# Altium schematic symbol library Resistors.SCHLIB: 99 symbols (part 2 of 2)
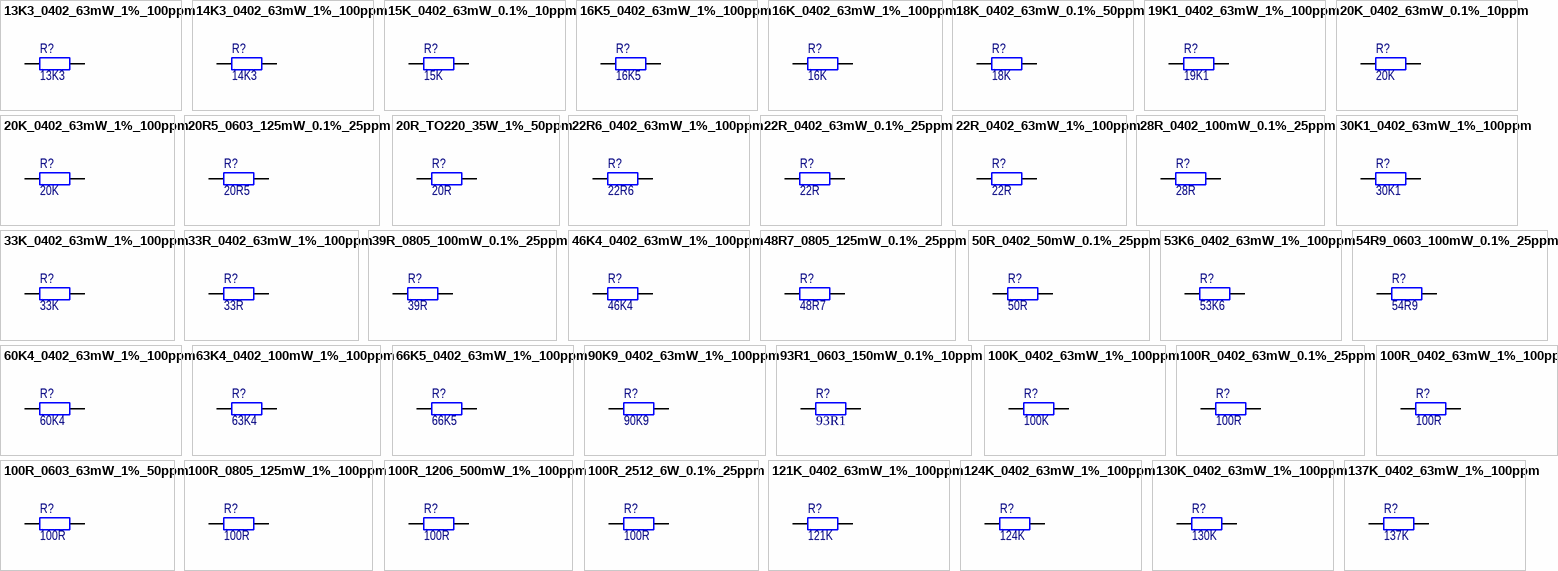
[diagram p3: symbols 13K3_0402_63mW_1%_100ppm to 137K_0402_63mW_1%_100ppm]

## 53K6_0402_63mW_1%_100ppm
designator R?, comment value 53K6  (hidden comment: RC0402FR-0753K6L)
Resistor; Chip; 53.6k; 0402; 50V; 1%; 100ppm; 63mW; -55°C ~ 155°C; Manufacturer: Yageo; Manufacturer Part Number: RC0402FR-0753K6L; Supplier 1: DigiKey; Supplier Part Number 1: 311-53.6KLRDKR-ND; ComponentLink1Description: Datasheet; ComponentLink1URL: https://www.yageo.com/upload/media/product/productsearch/datasheet/rchip/PYu-RC_Group_51_RoHS_L_11.pdf; ComponentLink2Description: Supplier Info; ComponentLink2URL: https://www.digikey.com/en/products/detail/yageo/RC0402FR-0753K6L/726634?s=N4IgTCBcDaIMwEYEFoCscB0A2A0gGQCUARHA5AOSJAF0BfIA
simulation model RESISTOR (Resistor)
signal-integrity model Res
footprint RESC0402 (Chip Resistor, Body 1.1x0.5mm (LxW typ) [0402], IPC High Density)
pins: 1, 2

## 54R9_0603_100mW_0.1%_25ppm
designator R?, comment value 54R9  (hidden comment: ERA-3AEB54R9V)
Resistor; Chip; 54.9R; 0603; 75V; 0.1%; 25ppm; 100mW; -55°C ~ 155°C; Manufacturer: Panasonic Electronic Components; Manufacturer Part Number: ERA-3AEB54R9V; Supplier 1: DigiKey; Supplier Part Number 1: P54.9DBDKR-ND; ComponentLink1Description: Datasheet; ComponentLink1URL: https://industrial.panasonic.com/cdbs/www-data/pdf/RDM0000/AOA0000C307.pdf; ComponentLink2Description: Supplier Info; ComponentLink2URL: https://www.digikey.com/en/products/detail/panasonic-electronic-components/ERA-3AEB54R9V/2026635?s=N4IgTCBcDaIAoFYAsA6AnAEQEIYNICUBaAOQxAF0BfIA
simulation model RESISTOR (Resistor)
signal-integrity model Res
footprint RESC0603 (Chip Resistor, Body 1.6x0.8mm (LxW typ) [0603], IPC High Density)
pins: 1, 2

## 60K4_0402_63mW_1%_100ppm
designator R?, comment value 60K4  (hidden comment: RC0402FR-0760K4L)
Resistor; Chip; 60.4k; 0402; 50V; 1%; 100ppm; 63mW; -55°C ~ 155°C; Manufacturer: Yageo; Manufacturer Part Number: RC0402FR-0760K4L; Supplier 1: DigiKey; Supplier Part Number 1: 311-60.4KLRDKR-ND; ComponentLink1Description: Datasheet; ComponentLink1URL: https://www.yageo.com/upload/media/product/productsearch/datasheet/rchip/PYu-RC_Group_51_RoHS_L_11.pdf; ComponentLink2Description: Supplier Info; ComponentLink2URL: https://www.digikey.com/en/products/detail/yageo/RC0402FR-0760K4L/726643?s=N4IgTCBcDaIMwEYEFoBsAGAdAFgNIBkAlAEV0OQDliQBdAXyA
simulation model RESISTOR (Resistor)
signal-integrity model Res
footprint RESC0402 (Chip Resistor, Body 1.1x0.5mm (LxW typ) [0402], IPC High Density)
pins: 1, 2

## 63K4_0402_100mW_1%_100ppm
designator R?, comment value 63K4  (hidden comment: ERJ-2RKF63R4X)
Resistor; Chip; 63.4k; 0402; 50V; 1%; 100ppm; 100mW; -55°C ~ 155°C; Manufacturer: Panasonic Electronic Components; Manufacturer Part Number: ERJ-2RKF63R4X; Supplier 1: DigiKey; Supplier Part Number 1: P63.4LDKR-ND; ComponentLink1Description: Datasheet; ComponentLink1URL: https://industrial.panasonic.com/cdbs/www-data/pdf/RDA0000/AOA0000C304.pdf; ComponentLink2Description: Supplier Info; ComponentLink2URL: https://www.digikey.com/en/products/detail/panasonic-electronic-components/ERJ-2RKF63R4X/192435?s=N4IgTCBcDaIAoDYDMA6ALAGQCIGkBKAtAHJYgC6AvkA
simulation model RESISTOR (Resistor)
signal-integrity model Res
footprint RESC0402 (Chip Resistor, Body 1.1x0.5mm (LxW typ) [0402], IPC High Density)
pins: 1, 2

## 66K5_0402_63mW_1%_100ppm
designator R?, comment value 66K5  (hidden comment: RC0402FR-0766K5L)
Resistor; Chip; 66.5k; 0402; 50V; 1%; 100ppm; 63mW; -55°C ~ 155°C; Manufacturer: Yageo; Manufacturer Part Number: RC0402FR-0766K5L; Supplier 1: DigiKey; Supplier Part Number 1: YAG3209DKR-ND; ComponentLink1Description: Datasheet; ComponentLink1URL: https://www.yageo.com/upload/media/product/productsearch/datasheet/rchip/PYu-RC_Group_51_RoHS_L_11.pdf; ComponentLink2Description: Supplier Info; ComponentLink2URL: https://www.digikey.com/en/products/detail/yageo/RC0402FR-0766K5L/5281069?s=N4IgTCBcDaIJoEEDiBmMAGAnAEQNICUBaAOWxAF0BfIA
simulation model RESISTOR (Resistor)
signal-integrity model Res
footprint RESC0402 (Chip Resistor, Body 1.1x0.5mm (LxW typ) [0402], IPC High Density)
pins: 1, 2

## 90K9_0402_63mW_1%_100ppm
designator R?, comment value 90K9  (hidden comment: RC0402FR-0790K9L)
Resistor; Chip; 90.9k; 0402; 50V; 1%; 100ppm; 63mW; -55°C ~ 155°C; Manufacturer: Yageo; Manufacturer Part Number: RC0402FR-0790K9L; Supplier 1: DigiKey; Supplier Part Number 1: 311-90.9KLRDKR-ND; ComponentLink1Description: Datasheet; ComponentLink1URL: https://www.yageo.com/upload/media/product/productsearch/datasheet/rchip/PYu-RC_Group_51_RoHS_L_11.pdf; ComponentLink2Description: Supplier Info; ComponentLink2URL: https://www.digikey.com/en/products/detail/yageo/RC0402FR-0790K9L/726670?s=N4IgTCBcDaIMwEYEFoCcAGAdKg0gGQCUARHA5AOSJAF0BfIA
simulation model RESISTOR (Resistor)
signal-integrity model Res
footprint RESC0402 (Chip Resistor, Body 1.1x0.5mm (LxW typ) [0402], IPC High Density)
pins: 1, 2

## 93R1_0603_150mW_0.1%_10ppm
designator R?, comment value 93R1  (hidden comment: RQ73C1J93R1BTD)
Resistor; Chip; 93.1R; 0603; 75V; 0.1%; 10ppm; 150mW; -55°C ~ 155°C; Manufacturer: TE Connectivity; Manufacturer Part Number: RQ73C1J93R1BTD; Supplier 1: DigiKey; Supplier Part Number 1: A139961DKR-ND; ComponentLink1Description: Datasheet; ComponentLink1URL: https://media.digikey.com/pdf/Data%20Sheets/Tyco%20Electronics%20P%20B%20PDFs/RQ73-0618%20v2.pdf; ComponentLink2Description: Supplier Info; ComponentLink2URL: https://www.digikey.com/en/products/detail/te-connectivity-passive-product/RQ73C1J93R1BTD/9479909?s=N4IgTCBcDaIIIEYDMBOFA2BARA0gJQFoA5LEAXQF8g
simulation model RESISTOR (Resistor)
signal-integrity model Res
footprint RESC0603 (Chip Resistor, Body 1.6x0.8mm (LxW typ) [0603], IPC High Density)
pins: 1, 2

## 100K_0402_63mW_1%_100ppm
designator R?, comment value 100K  (hidden comment: RC0402FR-07100KL)
Resistor; Chip; 100k; 0402; 50V; 1%; 100ppm; 63mW; -55°C ~ 155°C; Manufacturer: Yageo; Manufacturer Part Number: RC0402FR-07100KL; Supplier 1: DigiKey; Supplier Part Number 1: 311-100KLRDKR-ND; ComponentLink1Description: Datasheet; ComponentLink1URL: https://www.yageo.com/upload/media/product/productsearch/datasheet/rchip/PYu-RC_Group_51_RoHS_L_11.pdf; ComponentLink2Description: Supplier Info; ComponentLink2URL: https://www.digikey.com/en/products/detail/yageo/RC0402FR-07100KL/726526?s=N4IgTCBcDaIMwEYEFoEAY0GkAyAlAIprsgHL4gC6AvkA
simulation model RESISTOR (Resistor)
signal-integrity model Res
footprint RESC0402 (Chip Resistor, Body 1.1x0.5mm (LxW typ) [0402], IPC High Density)
pins: 1, 2

## 100R_0402_63mW_0.1%_25ppm
designator R?, comment value 100R  (hidden comment: CRT0402-BY-1000GST)
Resistor; Chip; 100R; 0402; 50V; 0.1%; 25ppm; 63mW; -55°C ~ 155°C; Manufacturer: Bourns Inc.; Manufacturer Part Number: CRT0402-BY-1000GST; Supplier 1: DigiKey; Supplier Part Number 1: CRT0402-BY-1000GSTDKR-ND; ComponentLink1Description: Datasheet; ComponentLink1URL: https://www.bourns.com/docs/product-datasheets/crt-st.pdf; ComponentLink2Description: Supplier Info; ComponentLink2URL: https://www.digikey.com/en/products/detail/bourns-inc/CRT0402-BY-1000GST/7928082?s=N4IgTCBcDaIMICUAqAGALCsBaAQgTSwEYUSBxAZSQBEBpBLAOSpAF0BfIA
simulation model RESISTOR (Resistor)
signal-integrity model Res
footprint RESC0402 (Chip Resistor, Body 1.1x0.5mm (LxW typ) [0402], IPC High Density)
pins: 1, 2

## 100R_0402_63mW_1%_100ppm
designator R?, comment value 100R  (hidden comment: RC0402FR-07100RL)
Resistor; Chip; 100R; 0402; 50V; 1%; 100ppm; 63mW; -55°C ~ 155°C; Manufacturer: Yageo; Manufacturer Part Number: RC0402FR-07100RL; Supplier 1: DigiKey; Supplier Part Number 1: 311-100LRDKR-ND; ComponentLink1Description: Datasheet; ComponentLink1URL: https://www.yageo.com/upload/media/product/productsearch/datasheet/rchip/PYu-RC_Group_51_RoHS_L_11.pdf; ComponentLink2Description: Supplier Info; ComponentLink2URL: https://www.digikey.com/en/products/detail/yageo/RC0402FR-07100RL/726527?s=N4IgTCBcDaIMwEYEFoEAY0BkBKARA0tsgHK4gC6AvkA
simulation model RESISTOR (Resistor)
signal-integrity model Res
footprint RESC0402 (Chip Resistor, Body 1.1x0.5mm (LxW typ) [0402], IPC High Density)
pins: 1, 2

## 100R_0603_63mW_1%_50ppm
designator R?, comment value 100R  (hidden comment: CPF0603F100RC1)
Resistor; Chip; 100R; 0603; 50V; 1%; 50ppm; 63mW; -55°C ~ 155°C; Manufacturer: TE Connectivity; Manufacturer Part Number: CPF0603F100RC1; Supplier 1: DigiKey; Supplier Part Number 1: A102200DKR-ND; ComponentLink1Description: Datasheet; ComponentLink1URL: https://www.te.com/commerce/DocumentDelivery/DDEController?Action=srchrtrv&DocNm=1773200&DocType=DS&DocLang=English; ComponentLink2Description: Supplier Info; ComponentLink2URL: https://www.digikey.com/en/products/detail/te-connectivity-passive-product/CPF0603F100RC1/2384293?s=N4IgTCBcDaIIIEYAMYxKQEQNICUC0AchiALoC%2BQA
simulation model RESISTOR (Resistor)
signal-integrity model Res
footprint RESC0603 (Chip Resistor, Body 1.6x0.8mm (LxW typ) [0603], IPC High Density)
pins: 1, 2

## 100R_0805_125mW_1%_100ppm
designator R?, comment value 100R  (hidden comment: RC0805FR-07100RL)
Resistor; Chip; 100R; 0805; 150V; 1%; 100ppm; 125mW; -55°C ~ 155°C; Manufacturer: Yageo; Manufacturer Part Number: RC0805FR-07100RL; Supplier 1: DigiKey; Supplier Part Number 1: 311-100CRCT-ND; ComponentLink1Description: Datasheet; ComponentLink1URL: https://www.yageo.com/upload/media/product/productsearch/datasheet/rchip/PYu-RC_Group_51_RoHS_L_11.pdf; ComponentLink2Description: Supplier Info; ComponentLink2URL: https://www.digikey.com/en/products/detail/yageo/RC0805FR-07100RL/727543?s=N4IgTCBcDaIMwEYEFoEAY0GEBKmAqyAcgCIgC6AvkA
simulation model RESISTOR (Resistor)
signal-integrity model Res
footprint RESC0805 (Chip Resistor, Body 2.0x1.3mm (LxW typ) [0805], IPC High Density)
pins: 1, 2

## 100R_1206_500mW_1%_100ppm
designator R?, comment value 100R  (hidden comment: RNCP1206FTD100R)
Resistor; Chip; 100R; 1206; 200V; 1%; 100ppm; 500mW; -55°C ~ 155°C; Manufacturer: Stackpole Electronics Inc; Manufacturer Part Number: RNCP1206FTD100R; Supplier 1: DigiKey; Supplier Part Number 1: RNCP1206FTD100RDKR-ND; ComponentLink1Description: Datasheet; ComponentLink1URL: https://www.seielect.com/catalog/sei-rncp.pdf; ComponentLink2Description: Supplier Info; ComponentLink2URL: https://www.digikey.com/en/products/detail/stackpole-electronics-inc/RNCP1206FTD100R/2240316?s=N4IgTCBcDaIEoDkDCAFAjGADANgGIBUARNTTOQgaTgFoFCQBdAXyA
simulation model RESISTOR (Resistor)
signal-integrity model Res
footprint RESC1206 (Chip Resistor, Body 3.2x1.6mm (LxW typ) [1206], IPC High Density)
pins: 1, 2

## 100R_2512_6W_0.1%_25ppm
designator R?, comment value 100R  (hidden comment: PCAN2512E1000BST5)
Resistor; Chip; 100R; 2512; 100V; 0.1%; 25ppm; 6W; -55°C ~ 155°C; Manufacturer: Vishay; Manufacturer Part Number: PCAN2512E1000BST5; Supplier 1: DigiKey; Supplier Part Number 1: 764-1143-1-ND; ComponentLink1Description: Datasheet; ComponentLink1URL: https://www.vishay.com/docs/60125/pcan.pdf; ComponentLink2Description: Supplier Info; ComponentLink2URL: https://www.digikey.com/en/products/detail/vishay-dale-thin-film/PCAN2512E1000BST5/4895519?s=N4IgTCBcDaIOwDYAsBaAjGpBmdKByAIiALoC%2BQA
simulation model RESISTOR (Resistor)
signal-integrity model Res
footprint RESC2512 (Chip Resistor, Body 6.3x3.2mm (LxW typ) [2512], IPC High Density)
pins: 1, 2

## 121K_0402_63mW_1%_100ppm
designator R?, comment value 121K  (hidden comment: RC0402FR-07121KL)
Resistor; Chip; 121k; 0402; 50V; 1%; 100ppm; 63mW; -55°C ~ 155°C; Manufacturer: Yageo; Manufacturer Part Number: RC0402FR-07121KL; Supplier 1: DigiKey; Supplier Part Number 1: 311-121KLRCT-ND; ComponentLink1Description: Datasheet; ComponentLink1URL: https://www.yageo.com/upload/media/product/productsearch/datasheet/rchip/PYu-RC_Group_51_RoHS_L_11.pdf; ComponentLink2Description: Supplier Info; ComponentLink2URL: https://www.digikey.com/en/products/detail/yageo/RC0402FR-07121KL/726536?s=N4IgTCBcDaIMwEYEFoFgQaQDICUDCAKsgHIAiIAugL5A
simulation model RESISTOR (Resistor)
signal-integrity model Res
footprint RESC0402 (Chip Resistor, Body 1.1x0.5mm (LxW typ) [0402], IPC High Density)
pins: 1, 2

## 124K_0402_63mW_1%_100ppm
designator R?, comment value 124K  (hidden comment: RC0402FR-07124KL)
Resistor; Chip; 124k; 0402; 50V; 1%; 100ppm; 63mW; -55°C ~ 155°C; Manufacturer: Yageo; Manufacturer Part Number: RC0402FR-07124KL; Supplier 1: DigiKey; Supplier Part Number 1: 311-124KLRDKR-ND; ComponentLink1Description: Datasheet; ComponentLink1URL: https://www.yageo.com/upload/media/product/productsearch/datasheet/rchip/PYu-RC_Group_51_RoHS_L_11.pdf; ComponentLink2Description: Supplier Info; ComponentLink2URL: https://www.digikey.com/en/products/detail/yageo/RC0402FR-07124KL/726537?s=N4IgTCBcDaIMwEYEFoFgCwGkAyAlAIprsgHL4gC6AvkA
simulation model RESISTOR (Resistor)
signal-integrity model Res
footprint RESC0402 (Chip Resistor, Body 1.1x0.5mm (LxW typ) [0402], IPC High Density)
pins: 1, 2

## 130K_0402_63mW_1%_100ppm
designator R?, comment value 130K  (hidden comment: RC0402FR-07130KL)
Resistor; Chip; 130k; 0402; 50V; 1%; 100ppm; 63mW; -55°C ~ 155°C; Manufacturer: Yageo; Manufacturer Part Number: RC0402FR-07130KL; Supplier 1: DigiKey; Supplier Part Number 1: YAG2969DKR-ND; ComponentLink1Description: Datasheet; ComponentLink1URL: https://www.yageo.com/upload/media/product/productsearch/datasheet/rchip/PYu-RC_Group_51_RoHS_L_11.pdf; ComponentLink2Description: Supplier Info; ComponentLink2URL: https://www.digikey.com/en/products/detail/yageo/RC0402FR-07130KL/5280829?s=N4IgTCBcDaIJoEEDiYCcA2VARA0gJQFoA5LEAXQF8g
simulation model RESISTOR (Resistor)
signal-integrity model Res
footprint RESC0402 (Chip Resistor, Body 1.1x0.5mm (LxW typ) [0402], IPC High Density)
pins: 1, 2

## 137K_0402_63mW_1%_100ppm
designator R?, comment value 137K  (hidden comment: RC0402FR-07137KL)
Resistor; Chip; 137k; 0402; 50V; 1%; 100ppm; 63mW; -55°C ~ 155°C; Manufacturer: Yageo; Manufacturer Part Number: RC0402FR-07137KL; Supplier 1: DigiKey; Supplier Part Number 1: YAG2972DKR-ND; ComponentLink1Description: Datasheet; ComponentLink1URL: https://www.yageo.com/upload/media/product/productsearch/datasheet/rchip/PYu-RC_Group_51_RoHS_L_11.pdf; ComponentLink2Description: Supplier Info; ComponentLink2URL: https://www.digikey.com/en/products/detail/yageo/RC0402FR-07137KL/5280832?s=N4IgTCBcDaIJoEEDiYCcB2MARA0gJQFoA5LEAXQF8g
simulation model RESISTOR (Resistor)
signal-integrity model Res
footprint RESC0402 (Chip Resistor, Body 1.1x0.5mm (LxW typ) [0402], IPC High Density)
pins: 1, 2

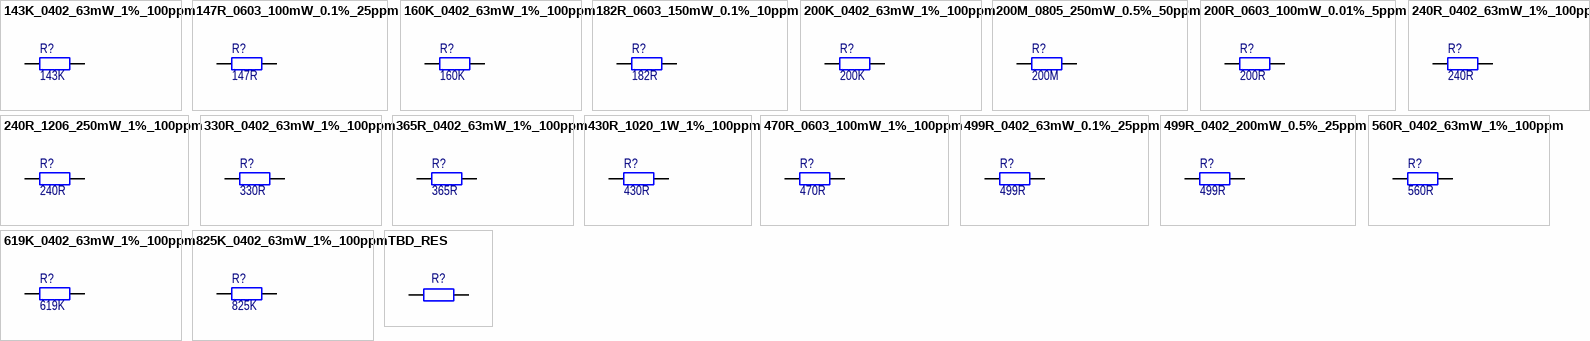
[diagram p2: symbols 143K_0402_63mW_1%_100ppm to TBD_RES]

## 143K_0402_63mW_1%_100ppm
designator R?, comment value 143K  (hidden comment: RC0402FR-07143KL)
Resistor; Chip; 143k; 0402; 50V; 1%; 100ppm; 63mW; -55°C ~ 155°C; Manufacturer: Yageo; Manufacturer Part Number: RC0402FR-07143KL; Supplier 1: DigiKey; Supplier Part Number 1: YAG2979CT-ND; ComponentLink1Description: Datasheet; ComponentLink1URL: https://www.yageo.com/upload/media/product/productsearch/datasheet/rchip/PYu-RC_Group_51_RoHS_L_11.pdf; ComponentLink2Description: Supplier Info; ComponentLink2URL: https://www.digikey.com/en/products/detail/yageo/RC0402FR-07143KL/5280839?s=N4IgTCBcDaIJoEEDiYCcB2VBhAKgWgDkAREAXQF8g
simulation model RESISTOR (Resistor)
signal-integrity model Res
footprint RESC0402 (Chip Resistor, Body 1.1x0.5mm (LxW typ) [0402], IPC High Density)
pins: 1, 2

## 147R_0603_100mW_0.1%_25ppm
designator R?, comment value 147R  (hidden comment: ERA-3AEB1470V)
Resistor; Chip; 147R; 0603; 75V; 0.1%; 25ppm; 100mW; -55°C ~ 155°C; Manufacturer: Panasonic Electronic Components; Manufacturer Part Number: ERA-3AEB1470V; Supplier 1: DigiKey; Supplier Part Number 1: P147DBDKR-ND; ComponentLink1Description: Datasheet; ComponentLink1URL: https://industrial.panasonic.com/cdbs/www-data/pdf/RDM0000/AOA0000C307.pdf; ComponentLink2Description: Supplier Info; ComponentLink2URL: https://www.digikey.com/en/products/detail/panasonic-electronic-components/ERA-3AEB1470V/2026672?s=N4IgTCBcDaIAoEYAsB2AIgITQaQEoFoA5NEAXQF8g
simulation model RESISTOR (Resistor)
signal-integrity model Res
footprint RESC0603 (Chip Resistor, Body 1.6x0.8mm (LxW typ) [0603], IPC High Density)
pins: 1, 2

## 160K_0402_63mW_1%_100ppm
designator R?, comment value 160K  (hidden comment: RC0402FR-07160KL)
Resistor; Chip; 160k; 0402; 50V; 1%; 100ppm; 63mW; -55°C ~ 155°C; Manufacturer: Yageo; Manufacturer Part Number: RC0402FR-07160KL; Supplier 1: DigiKey; Supplier Part Number 1: YAG2996DKR-ND; ComponentLink1Description: Datasheet; ComponentLink1URL: https://www.yageo.com/upload/media/product/productsearch/datasheet/rchip/PYu-RC_Group_51_RoHS_L_11.pdf; ComponentLink2Description: Supplier Info; ComponentLink2URL: https://www.digikey.com/en/products/detail/yageo/RC0402FR-07160KL/5280856?s=N4IgTCBcDaIJoEEDiYCcqBsARA0gJQFoA5LEAXQF8g
simulation model RESISTOR (Resistor)
signal-integrity model Res
footprint RESC0402 (Chip Resistor, Body 1.1x0.5mm (LxW typ) [0402], IPC High Density)
pins: 1, 2

## 182R_0603_150mW_0.1%_10ppm
designator R?, comment value 182R  (hidden comment: RQ73C1J182RBTD)
Resistor; Chip; 182R; 0603; 75V; 0.1%; 10ppm; 150mW; -55°C ~ 155°C; Manufacturer: TE Connectivity; Manufacturer Part Number: RQ73C1J182RBTD; Supplier 1: DigiKey; Supplier Part Number 1: A140433DKR-ND; ComponentLink1Description: Datasheet; ComponentLink1URL: https://media.digikey.com/pdf/Data%20Sheets/Tyco%20Electronics%20P%20B%20PDFs/RQ73-0618%20v2.pdf; ComponentLink2Description: Supplier Info; ComponentLink2URL: https://www.digikey.com/en/products/detail/te-connectivity-passive-product/RQ73C1J182RBTD/9480381?s=N4IgTCBcDaIIIEYAsAGJBmdARA0gJQFoA5LEAXQF8g
simulation model RESISTOR (Resistor)
signal-integrity model Res
footprint RESC0603 (Chip Resistor, Body 1.6x0.8mm (LxW typ) [0603], IPC High Density)
pins: 1, 2

## 200K_0402_63mW_1%_100ppm
designator R?, comment value 200K  (hidden comment: RC0402FR-07200KL)
Resistor; Chip; 200k; 0402; 50V; 1%; 100ppm; 63mW; -55°C ~ 155°C; Manufacturer: Yageo; Manufacturer Part Number: RC0402FR-07200KL; Supplier 1: DigiKey; Supplier Part Number 1: 311-200KLRDKR-ND; ComponentLink1Description: Datasheet; ComponentLink1URL: https://www.yageo.com/upload/media/product/productsearch/datasheet/rchip/PYu-RC_Group_51_RoHS_L_11.pdf; ComponentLink2Description: Supplier Info; ComponentLink2URL: https://www.digikey.com/en/products/detail/yageo/RC0402FR-07200KL/726558?s=N4IgTCBcDaIMwEYEFowAY0GkAyAlAIprsgHL4gC6AvkA
simulation model RESISTOR (Resistor)
signal-integrity model Res
footprint RESC0402 (Chip Resistor, Body 1.1x0.5mm (LxW typ) [0402], IPC High Density)
pins: 1, 2

## 200M_0805_250mW_0.5%_50ppm
designator R?, comment value 200M  (hidden comment: KDV08DR200ET)
Resistor; Chip; 200M; 0805; 150V; 0.5%; 50ppm; 250mW; -55°C ~ 155°C; Manufacturer: Ohmite; Manufacturer Part Number: KDV08DR200ET; Supplier 1: DigiKey; Supplier Part Number 1: 273-KDV08DR200ETDKR-ND; ComponentLink1Description: Datasheet; ComponentLink1URL: https://www.ohmite.com/assets/docs/res_kdv.pdf?r=false; ComponentLink2Description: Supplier Info; ComponentLink2URL: https://www.digikey.com/en/products/detail/ohmite/KDV08DR200ET/10476522?s=N4IgTCBcDa4OwGYC0BpAIgNQAwA40CUwssBRAFTRXyQDk0QBdAXyA
simulation model RESISTOR (Resistor)
signal-integrity model Res
footprint RESC0805 (Chip Resistor, Body 2.0x1.3mm (LxW typ) [0805], IPC High Density)
pins: 1, 2

## 200R_0603_100mW_0.01%_5ppm
designator R?, comment value 200R  (hidden comment: RNCF0603TKY200R)
Resistor; Chip; 200R; 0603; 75V; 0.01%; 5ppm; 100mW; -55°C ~ 155°C; Manufacturer: Stackpole Electronics Inc; Manufacturer Part Number: RNCF0603TKY200R; Supplier 1: DigiKey; Supplier Part Number 1: RNCF0603TKY200RDKR-ND; ComponentLink1Description: Datasheet; ComponentLink1URL: https://www.seielect.com/catalog/sei-rncf.pdf; ComponentLink2Description: Supplier Info; ComponentLink2URL: https://www.digikey.com/en/products/detail/stackpole-electronics-inc/RNCF0603TKY200R/4928380?s=N4IgTCBcDaIEoDkDCAxADANjQZgCoGkBNMNNOAEXzgFoFyQBdAXyA
simulation model RESISTOR (Resistor)
signal-integrity model Res
footprint RESC0603 (Chip Resistor, Body 1.6x0.8mm (LxW typ) [0603], IPC High Density)
pins: 1, 2

## 240R_0402_63mW_1%_100ppm
designator R?, comment value 240R  (hidden comment: RC0402FR-07240RL)
Resistor; Chip; 240R; 0402; 50V; 1%; 100ppm; 63mW; -55°C ~ 155°C; Manufacturer: Yageo; Manufacturer Part Number: RC0402FR-07240RL; Supplier 1: DigiKey; Supplier Part Number 1: 311-240LRDKR-ND; ComponentLink1Description: Datasheet; ComponentLink1URL: https://www.yageo.com/upload/media/product/productsearch/datasheet/rchip/PYu-RC_Group_51_RoHS_L_11.pdf; ComponentLink2Description: Supplier Info; ComponentLink2URL: https://www.digikey.com/en/products/detail/yageo/RC0402FR-07240RL/2827564?s=N4IgTCBcDaIMwEYEFowBYAMAZASgEQGkdkA5PEAXQF8g
simulation model RESISTOR (Resistor)
signal-integrity model Res
footprint RESC0402 (Chip Resistor, Body 1.1x0.5mm (LxW typ) [0402], IPC High Density)
pins: 1, 2

## 240R_1206_250mW_1%_100ppm
designator R?, comment value 240R  (hidden comment: RC1206FR-07240RL)
Resistor; Chip; 240R; 1206; 50V; 1%; 100ppm; 250mW; -55°C ~ 155°C; Manufacturer: Yageo; Manufacturer Part Number: RC1206FR-07240RL; Supplier 1: DigiKey; Supplier Part Number 1: 311-240FRDKR-ND; ComponentLink1Description: Datasheet; ComponentLink1URL: https://www.yageo.com/upload/media/product/productsearch/datasheet/rchip/PYu-RC_Group_51_RoHS_L_11.pdf; ComponentLink2Description: Supplier Info; ComponentLink2URL: https://www.digikey.com/en/products/detail/yageo/RC1206FR-07240RL/728713?s=N4IgTCBcDaIMwEYEFowBYAMAxASgEQGkdkA5PEAXQF8g
simulation model RESISTOR (Resistor)
signal-integrity model Res
footprint RESC1206 (Chip Resistor, Body 3.2x1.6mm (LxW typ) [1206], IPC High Density)
pins: 1, 2

## 330R_0402_63mW_1%_100ppm
designator R?, comment value 330R  (hidden comment: RC0402FR-07330RL)
Resistor; Chip; 330R; 0402; 50V; 1%; 100ppm; 63mW; -55°C ~ 155°C; Manufacturer: Yageo; Manufacturer Part Number: RC0402FR-07330RL; Supplier 1: DigiKey; Supplier Part Number 1: 311-330LRDKR-ND; ComponentLink1Description: Datasheet; ComponentLink1URL: https://www.yageo.com/upload/media/product/productsearch/datasheet/rchip/PYu-RC_Group_51_RoHS_L_11.pdf; ComponentLink2Description: Supplier Info; ComponentLink2URL: https://www.digikey.com/en/products/detail/yageo/RC0402FR-07330RL/726594?s=N4IgTCBcDaIMwEYEFo5wAwBkBKARA0tsgHK4gC6AvkA
simulation model RESISTOR (Resistor)
signal-integrity model Res
footprint RESC0402 (Chip Resistor, Body 1.1x0.5mm (LxW typ) [0402], IPC High Density)
pins: 1, 2

## 365R_0402_63mW_1%_100ppm
designator R?, comment value 365R  (hidden comment: RC0402FR-07365RL)
Resistor; Chip; 365R; 0402; 50V; 1%; 100ppm; 63mW; -55°C ~ 155°C; Manufacturer: Yageo; Manufacturer Part Number: RC0402FR-07365RL; Supplier 1: DigiKey; Supplier Part Number 1: YAG3134DKR-ND; ComponentLink1Description: Datasheet; ComponentLink1URL: https://www.yageo.com/upload/media/product/productsearch/datasheet/rchip/PYu-RC_Group_51_RoHS_L_11.pdf; ComponentLink2Description: Supplier Info; ComponentLink2URL: https://www.digikey.com/en/products/detail/yageo/RC0402FR-07365RL/5280994?s=N4IgTCBcDaIJoEEDiBmAjCgLAEQNICUBaAOWxAF0BfIA
simulation model RESISTOR (Resistor)
signal-integrity model Res
footprint RESC0402 (Chip Resistor, Body 1.1x0.5mm (LxW typ) [0402], IPC High Density)
pins: 1, 2

## 430R_1020_1W_1%_100ppm
designator R?, comment value 430R  (hidden comment: LTR50UZPF4300)
Resistor; Chip; 430R; 1020; 200V; 1%; 100ppm; 1W; -55°C ~ 155°C; Manufacturer: Rohm Semiconductor; Manufacturer Part Number: LTR50UZPF4300; Supplier 1: DigiKey; Supplier Part Number 1: RHM430ACDKR-ND; ComponentLink1Description: Datasheet; ComponentLink1URL: https://d1d2qsbl8m0m72.cloudfront.net/en/products/databook/datasheet/passive/resistor/chip_resistor/ltr-e.pdf; ComponentLink2Description: Supplier Info; ComponentLink2URL: https://www.digikey.com/en/products/detail/rohm-semiconductor/LTR50UZPF4300/4052996?s=N4IgTCBcDaIEoAkCyAWAzABgIIGEAiA0nALQByeIAugL5A
simulation model RESISTOR (Resistor)
signal-integrity model Res
footprint RESC1020 (Chip Resistor, Body 2.5x5.0mm (LxW typ) [1020])
pins: 1, 2

## 470R_0603_100mW_1%_100ppm
designator R?, comment value 470R  (hidden comment: RC0603FR-07470RL)
Resistor; Chip; 470R; 0603; 75V; 1%; 100ppm; 100mW; -55°C ~ 155°C; Manufacturer: Yageo; Manufacturer Part Number: RC0603FR-07470RL; Supplier 1: DigiKey; Supplier Part Number 1: 311-470HRDKR-ND; ComponentLink1Description: Datasheet; ComponentLink1URL: https://www.yageo.com/upload/media/product/productsearch/datasheet/rchip/PYu-RC_Group_51_RoHS_L_11.pdf; ComponentLink2Description: Supplier Info; ComponentLink2URL: https://www.digikey.com/en/products/detail/yageo/RC0603FR-07470RL/727256?s=N4IgTCBcDaIMwEYEFoAsB2ADACQEoBEBpXZAOXxAF0BfIA
simulation model RESISTOR (Resistor)
signal-integrity model Res
footprint RESC0603 (Chip Resistor, Body 1.6x0.8mm (LxW typ) [0603], IPC High Density)
pins: 1, 2

## 499R_0402_63mW_0.1%_25ppm
designator R?, comment value 499R  (hidden comment: RQ73C1E499RBTD)
Resistor; Chip; 499R; 0402; 50V; 0.1%; 25ppm; 63mW; -55°C ~ 155°C; Manufacturer: TE Connectivity; Manufacturer Part Number: RQ73C1E499RBTD; Supplier 1: DigiKey; Supplier Part Number 1: A139787DKR-ND; ComponentLink1Description: Datasheet; ComponentLink1URL: https://media.digikey.com/pdf/Data%20Sheets/Tyco%20Electronics%20P%20B%20PDFs/RQ73-0618%20v2.pdf; ComponentLink2Description: Supplier Info; ComponentLink2URL: https://www.digikey.com/en/products/detail/te-connectivity-passive-product/RQ73C1E499RBTD/9479735?s=N4IgTCBcDaIIIEYDMBOA7ADjQEQNICUBaAOWxAF0BfIA
simulation model RESISTOR (Resistor)
signal-integrity model Res
footprint RESC0402 (Chip Resistor, Body 1.1x0.5mm (LxW typ) [0402], IPC High Density)
pins: 1, 2

## 499R_0402_200mW_0.5%_25ppm
designator R?, comment value 499R  (hidden comment: MCS0402PD4990DE500)
Resistor; Chip; 499R; 0402; 50V; 0.5%; 25ppm; 200mW; -55°C ~ 175°C; Manufacturer: Vishay; Manufacturer Part Number: MCS0402PD4990DE500; Supplier 1: DigiKey; Supplier Part Number 1: 749-1510-1-ND; ComponentLink1Description: Datasheet; ComponentLink1URL: https://www.vishay.com/docs/28916/mcxhp.pdf; ComponentLink2Description: Supplier Info; ComponentLink2URL: https://www.digikey.com/en/products/detail/vishay-beyschlag-draloric-bc-components/MCS0402PD4990DE500/7244990?s=N4IgTCBcDaIOwBYCcBaAjAVjQBnSgcgCIgC6AvkA
simulation model RESISTOR (Resistor)
signal-integrity model Res
footprint RESC0402 (Chip Resistor, Body 1.1x0.5mm (LxW typ) [0402], IPC High Density)
pins: 1, 2

## 560R_0402_63mW_1%_100ppm
designator R?, comment value 560R  (hidden comment: RC0402FR-07560RL)
Resistor; Chip; 560R; 0402; 50V; 1%; 100ppm; 63mW; -55°C ~ 155°C; Manufacturer: Yageo; Manufacturer Part Number: RC0402FR-07560RL; Supplier 1: DigiKey; Supplier Part Number 1: 311-560LRDKR-ND; ComponentLink1Description: Datasheet; ComponentLink1URL: https://www.yageo.com/upload/media/product/productsearch/datasheet/rchip/PYu-RC_Group_51_RoHS_L_11.pdf; ComponentLink2Description: Supplier Info; ComponentLink2URL: https://www.digikey.com/en/products/detail/yageo/RC0402FR-07560RL/726638?s=N4IgTCBcDaIMwEYEFoCsA2ADAGQEoBEBpXZAOXxAF0BfIA
simulation model RESISTOR (Resistor)
signal-integrity model Res
footprint RESC0402 (Chip Resistor, Body 1.1x0.5mm (LxW typ) [0402], IPC High Density)
pins: 1, 2

## 619K_0402_63mW_1%_100ppm
designator R?, comment value 619K  (hidden comment: AC0402FR-07619KL)
Resistor; Chip; 619k; 0402; 50V; 1%; 100ppm; 63mW; -55°C ~ 155°C; Manufacturer: Yageo; Manufacturer Part Number: AC0402FR-07619KL; Supplier 1: DigiKey; Supplier Part Number 1: YAG5679DKR-ND; ComponentLink1Description: Datasheet; ComponentLink1URL: https://www.yageo.com/upload/media/product/productsearch/datasheet/rchip/PYu-AC_51_RoHS_L_7.pdf; ComponentLink2Description: Supplier Info; ComponentLink2URL: https://www.digikey.com/en/products/detail/yageo/AC0402FR-07619KL/5895454?s=N4IgTCBcDaIJoEEDiBWAbAdgJwBEDSASgLQByOIAugL5A
simulation model RESISTOR (Resistor)
signal-integrity model Res
footprint RESC0402 (Chip Resistor, Body 1.1x0.5mm (LxW typ) [0402], IPC High Density)
pins: 1, 2

## 825K_0402_63mW_1%_100ppm
designator R?, comment value 825K  (hidden comment: RC0402FR-07825KL)
Resistor; Chip; 825k; 0402; 50V; 1%; 100ppm; 63mW; -55°C ~ 155°C; Manufacturer: Yageo; Manufacturer Part Number: RC0402FR-07825KL; Supplier 1: DigiKey; Supplier Part Number 1: YAG3241DKR-ND; ComponentLink1Description: Datasheet; ComponentLink1URL: https://www.yageo.com/upload/media/product/productsearch/datasheet/rchip/PYu-RC_Group_51_RoHS_L_11.pdf; ComponentLink2Description: Supplier Info; ComponentLink2URL: https://www.digikey.com/en/products/detail/yageo/RC0402FR-07825KL/5281101?s=N4IgTCBcDaIJoEEDiBmMAWAjAEQNICUBaAOWxAF0BfIA
simulation model RESISTOR (Resistor)
signal-integrity model Res
footprint RESC0402 (Chip Resistor, Body 1.1x0.5mm (LxW typ) [0402], IPC High Density)
pins: 1, 2

## TBD_RES
designator R?, comment R  (value not drawn)
Resistor; Generic; Value: *; Manufacturer: *; Manufacturer Part Number: *; Supplier 1: *; Supplier Part Number 1: *; ComponentLink1Description: Datasheet; ComponentLink1URL: *; ComponentLink2Description: Supplier Info; ComponentLink2URL: *
simulation model RESISTOR (Resistor)
signal-integrity model Res
footprint RESC0201 (Chip Resistor, Body 0.6x0.3mm (LxW typ) [0201], IPC High Density)
footprint RESC0402 (Chip Resistor, Body 1.1x0.5mm (LxW typ) [0402], IPC High Density)
footprint RESC0603 (Chip Resistor, Body 1.6x0.8mm (LxW typ) [0603], IPC High Density)
footprint RESC0805 (Chip Resistor, Body 2.0x1.3mm (LxW typ) [0805], IPC High Density)
footprint RESC1020 (Chip Resistor, Body 2.5x5.0mm (LxW typ) [1020])
footprint RESC1206 (Chip Resistor, Body 3.2x1.6mm (LxW typ) [1206], IPC High Density)
footprint RESC2512 (Chip Resistor, Body 6.3x3.2mm (LxW typ) [2512], IPC High Density)
pins: 1, 2